# Altium schematic symbol library SCH - CONNECTORS - CUI RCJ-01.Schlib: 1 symbol
Pins are listed as number, name and electrical type; pins without a type are passive.

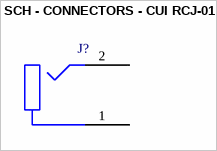
[diagram p0: symbol SCH - CONNECTORS - CUI RCJ-01]

## SCH - CONNECTORS - CUI RCJ-01
designator J?
footprint CP1402 (RCA Connector)
pins: 1 SLEEVE, 2 TIP